# EAGLE library part RG1?-L2 (library relay-custom)
HIGH FREQUENCY RELAYS WITH 1C AND 2C CONTACTS NAiS Source: http://www.mew-europe.com/.. en_ds_61302_0000.pdf
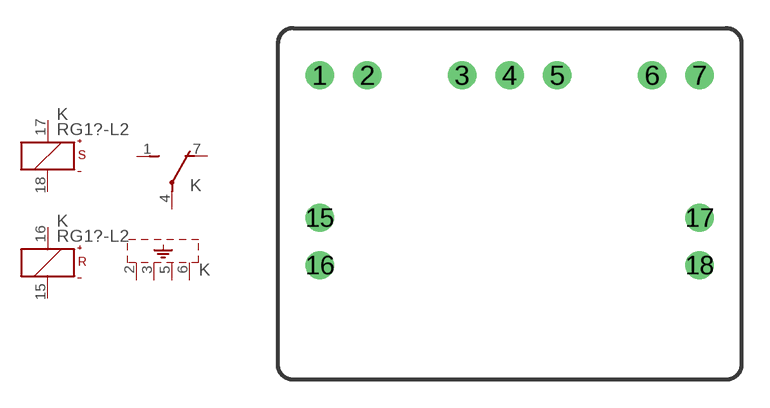
[diagram p92: symbol with the pads of RG1; footprint RG1]

Designator prefix K; gates 1=U S1=SHIELD-4 R=K+-R S=K+-S

## RG1-L2 (OC_FARNELL: unknown; OC_NEWARK: unknown)  [RG1]
1  1:S  pas
2  S1:SH  pas
3  S1:SH  pas
4  1:P  pas
5  S1:SH  pas
6  S1:SH  pas
7  1:O  pas
15  R:-  pas
16  R:+  pas
17  S:+  pas
18  S:-  pas

## Footprint RG1 (pad centres in mm)
HIGH FREQUENCY RELAYS WITH 1C AND 2C CONTACTS NAiS Source: http://www.mew-europe.com/.. en_ds_61302_0000.pdf
drill 1: 1 -10.16,7.62; 2 -7.62,7.62; 3 -2.54,7.62; 4 0,7.62; 5 2.54,7.62; 6 7.62,7.62; 7 10.16,7.62; 15 -10.16,0; 16 -10.16,-2.54; 17 10.16,0; 18 10.16,-2.54